# Altium footprint library modules.PcbLib: 4 footprints
Each footprint in its own frame and in the unit in brackets; x right, y up, seen from the top. Pads: shape width x height; smd on the part's side, far side on the other; paste and mask are expansions set on the pad; w line width, h text height; cw(c..) or ccw(c..) is an arc to the next point about the centre after c.
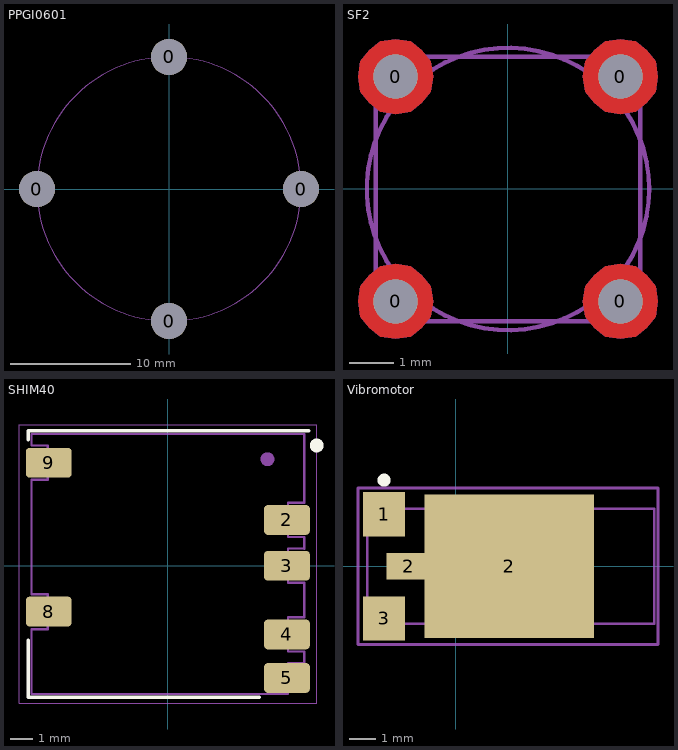
[diagram p0: the footprints below, top view; thin cyan lines are the x and y axes]

## PPGI0601 [mm]
pads (4):
  round 3 hole 3 unplated: 0(-11,0) 0(0,-11) 0(0,11) 0(11,0)
Top Assy:
  circle w0.1: c0,0 r11
3D body "Frenel_Lens_PPGI0601.STEP": height 13, standoff -3, extent -10.5,-10.5 10.5,10.5

## SF2 [mm]
pads (4):
  round 1 hole 1 unplated: 0(-2.55,-2.55) 0(-2.55,2.55) 0(2.55,-2.55) 0(2.55,2.55)
Top Layer:
  pour cut-out: -2.55,-1.7 -2.9,-1.75 -3.15,-1.95 -3.35,-2.2 -3.4,-2.55 -3.35,-2.9 -3.15,-3.15 -2.9,-3.35 -2.55,-3.4 -2.2,-3.35 -1.95,-3.15 -1.75,-2.9 -1.7,-2.55 -1.75,-2.2 -1.95,-1.95 -2.2,-1.75
  pour cut-out: -2.55,3.4 -2.9,3.35 -3.15,3.15 -3.35,2.9 -3.4,2.55 -3.35,2.2 -3.15,1.95 -2.9,1.75 -2.55,1.7 -2.2,1.75 -1.95,1.95 -1.75,2.2 -1.7,2.55 -1.75,2.9 -1.95,3.15 -2.2,3.35
  pour cut-out: 2.55,-1.7 2.2,-1.75 1.95,-1.95 1.75,-2.2 1.7,-2.55 1.75,-2.9 1.95,-3.15 2.2,-3.35 2.55,-3.4 2.9,-3.35 3.15,-3.15 3.35,-2.9 3.4,-2.55 3.35,-2.2 3.15,-1.95 2.9,-1.75
  pour cut-out: 2.55,3.4 2.2,3.35 1.95,3.15 1.75,2.9 1.7,2.55 1.75,2.2 1.95,1.95 2.2,1.75 2.55,1.7 2.9,1.75 3.15,1.95 3.35,2.2 3.4,2.55 3.35,2.9 3.15,3.15 2.9,3.35
Bottom Layer:
  pour cut-out: -2.55,-1.7 -2.9,-1.75 -3.15,-1.95 -3.35,-2.2 -3.4,-2.55 -3.35,-2.9 -3.15,-3.15 -2.9,-3.35 -2.55,-3.4 -2.2,-3.35 -1.95,-3.15 -1.75,-2.9 -1.7,-2.55 -1.75,-2.2 -1.95,-1.95 -2.2,-1.75
  pour cut-out: -2.55,3.4 -2.9,3.35 -3.15,3.15 -3.35,2.9 -3.4,2.55 -3.35,2.2 -3.15,1.95 -2.9,1.75 -2.55,1.7 -2.2,1.75 -1.95,1.95 -1.75,2.2 -1.7,2.55 -1.75,2.9 -1.95,3.15 -2.2,3.35
  pour cut-out: 2.55,-1.7 2.2,-1.75 1.95,-1.95 1.75,-2.2 1.7,-2.55 1.75,-2.9 1.95,-3.15 2.2,-3.35 2.55,-3.4 2.9,-3.35 3.15,-3.15 3.35,-2.9 3.4,-2.55 3.35,-2.2 3.15,-1.95 2.9,-1.75
  pour cut-out: 2.55,3.4 2.2,3.35 1.95,3.15 1.75,2.9 1.7,2.55 1.75,2.2 1.95,1.95 2.2,1.75 2.55,1.7 2.9,1.75 3.15,1.95 3.35,2.2 3.4,2.55 3.35,2.9 3.15,3.15 2.9,3.35
Top Assy:
  circle w0.1: c0,0 r3.2
  lines w0.1: -3,-3 -3,3 3,3 3,-3 -3,-3
3D body "SF2.STEP": height 2.03, standoff -1.5, extent -3.2,-3.2 3.2,3.2

## SHIM40 [mm]
height 2.5
pads (6):
  rrect25% 2x1.3 smd paste-25.4: 2(5.2,2) 3(5.2,0) 4(5.2,-3) 5(5.2,-4.9) 8(-5.2,-2) 9(-5.2,4.5)
Top Overlay:
  circle w0.4: c6.5,5.25 r0.1
  lines w0.15: -6.1,-3.25 -6.1,-5.75 4,-5.75 ; -6.1,5.5 -6.1,5.9 6.15,5.9
Top Paste:
  drawing of 6 lines, arcs and shapes, not listed
Top Assy:
  circle w0.4: c4.35,4.65 r0.1
  lines w0.1: 5.95,0.73 5.95,1.25 5.25,1.25 5.25,2.75 5.95,2.75 5.95,5.75 -5.95,5.75 -5.95,5.25 -5.25,5.25 -5.25,3.75 -5.95,3.75 -5.95,-1.25 -5.25,-1.25 -5.25,-2.77 -5.95,-2.77 -5.95,-5.6 5.25,-5.6 5.25,-4.25 5.95,-4.25 5.95,-3.75 5.25,-3.75 5.25,-2.25 5.95,-2.25 5.95,-0.75 5.25,-0.75 5.25,0.75 5.95,0.75 5.95,1.23
  text "5" at 4.5,-5.215 h0.63
  text "2" at 4.5,1.785 h0.63
  text "3" at 4.5,-0.215 h0.63
  text "4" at 4.5,-3.215 h0.63
  text "8" at -4.8,-2.265 h0.63
  text "9" at -4.8,4.235 h0.63
  text ".Designator" at 0.15,0.483 h1
Top Cortyard:
  lines w0.05: -6.5,-6 6.5,-6 6.5,6.15 -6.5,6.15 -6.5,-6
3D body "plata_SHIM_v11.step": height 1.85, standoff -0.01, extent -5.95,-5.59 5.95,5.76

## Vibromotor [mm]
height 3.6
pads (4):
  rect 1.6x1.7 smd: 1(-2.75,2) 3(-2.75,-2)
  rect 1.7x1 smd: 2(-1.8,0)
  rect 6.5x5.5 smd: 2(2.05,0)
Top Overlay:
  circle w0.25: c-2.75,3.3 r0.125
Top Assy:
  lines w0.1: -3.4,-2.2 7.6,-2.2 7.6,2.2 -3.4,2.2 -3.4,-2.2
Top Cortyard:
  lines w0.1: -0.5,0 0.5,0 ; 0,-0.5 0,0.5 ; -3.75,-3 7.75,-3 7.75,3 -3.75,3 -3.75,-3
3D body "SMD_DPAK160P700X360-3M.step": height 3.6, standoff 0, extent -3.4,-2.2 3.6,2.2
3D body: height 3.6, standoff 0, extent -3.4,-1.8 7.6,1.8